# Altium schematic symbol library 74HC139D,653.SchLib: 1 symbol
Pins are listed as number, name and electrical type; pins without a type are passive.

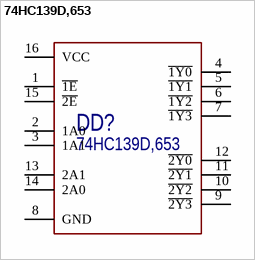
[diagram p0: symbol 74HC139D,653]

## 74HC139D,653
designator DD?
pins: 1 ~{1E}, 2 1A0, 3 1A1, 4 ~{1Y0}, 5 ~{1Y1}, 6 ~{1Y2}, 7 ~{1Y3}, 8 GND, 9 ~{2Y3}, 10 ~{2Y2}, 11 ~{2Y1}, 12 ~{2Y0}, 13 2A1, 14 2A0, 15 ~{2E}, 16 VCC (power)